# EAGLE library part TCN75 (library OpenMotics)
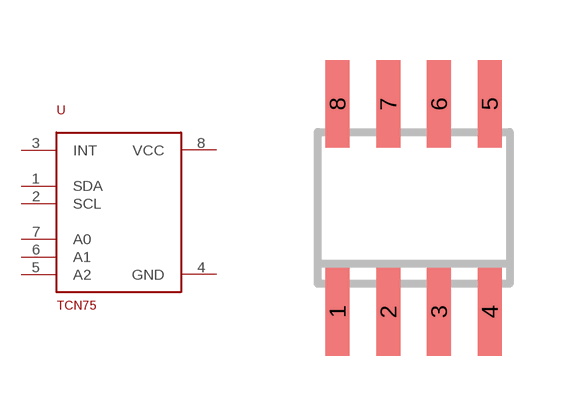
[diagram p33: symbol with the pads of SOIC8; footprint SOIC8]

Designator prefix U

## TCN75  [SOIC8]
1  SDA
2  SCL  in
3  INT  out
4  GND  pwr
5  A2  in
6  A1  in
7  A0  in
8  VCC  pwr

## Footprint SOIC8 (pad centres in mm)
smd 0.6 x 2.2: 1 0.635,1.21; 2 1.905,1.21; 3 3.175,1.21; 4 4.445,1.21; 5 4.445,6.41; 6 3.175,6.41; 7 1.905,6.41; 8 0.635,6.41